# EAGLE library part JP8-FLAT (library trainlib)
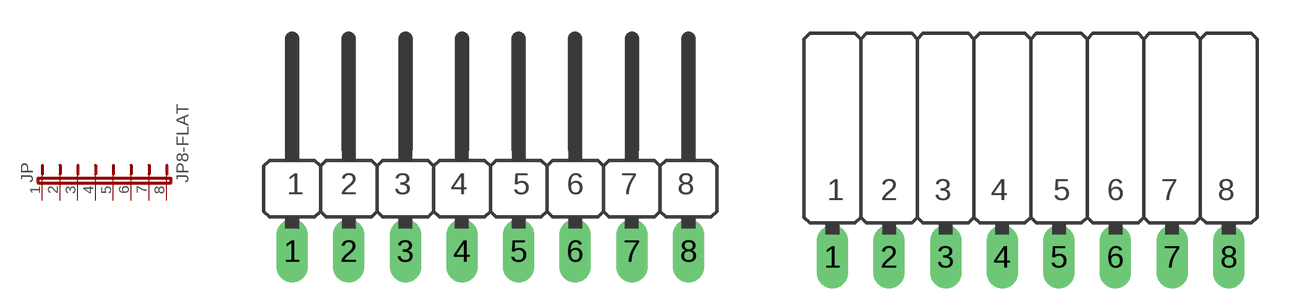
[diagram p23: symbol with the pads of JP8F; footprints JP8F, JP8F-FEM]

Designator prefix JP

## JP8-FLAT  [JP8F]
1  1  pas
2  2  pas
3  3  pas
4  4  pas
5  5  pas
6  6  pas
7  7  pas
8  8  pas

## JP8-FLATFEMALE  [JP8F-FEM]
Pads as for JP8F

## Footprint JP8F (pad centres in mm)
drill 0.914 long: 1 -8.89,0; 2 -6.35,0; 3 -3.81,0; 4 -1.27,0; 5 1.27,0; 6 3.81,0; 7 6.35,0; 8 8.89,0

## Footprint JP8F-FEM (pad centres in mm)
drill 0.914 long: 1 -8.89,0; 2 -6.35,0; 3 -3.81,0; 4 -1.27,0; 5 1.27,0; 6 3.81,0; 7 6.35,0; 8 8.89,0